# Altium footprint library SamacSys.PcbLib: 15 footprints
Each footprint in its own frame and in the unit in brackets; x right, y up, seen from the top. Pads: shape width x height; smd on the part's side, far side on the other; paste and mask are expansions set on the pad; w line width, h text height; cw(c..) or ccw(c..) is an arc to the next point about the centre after c.
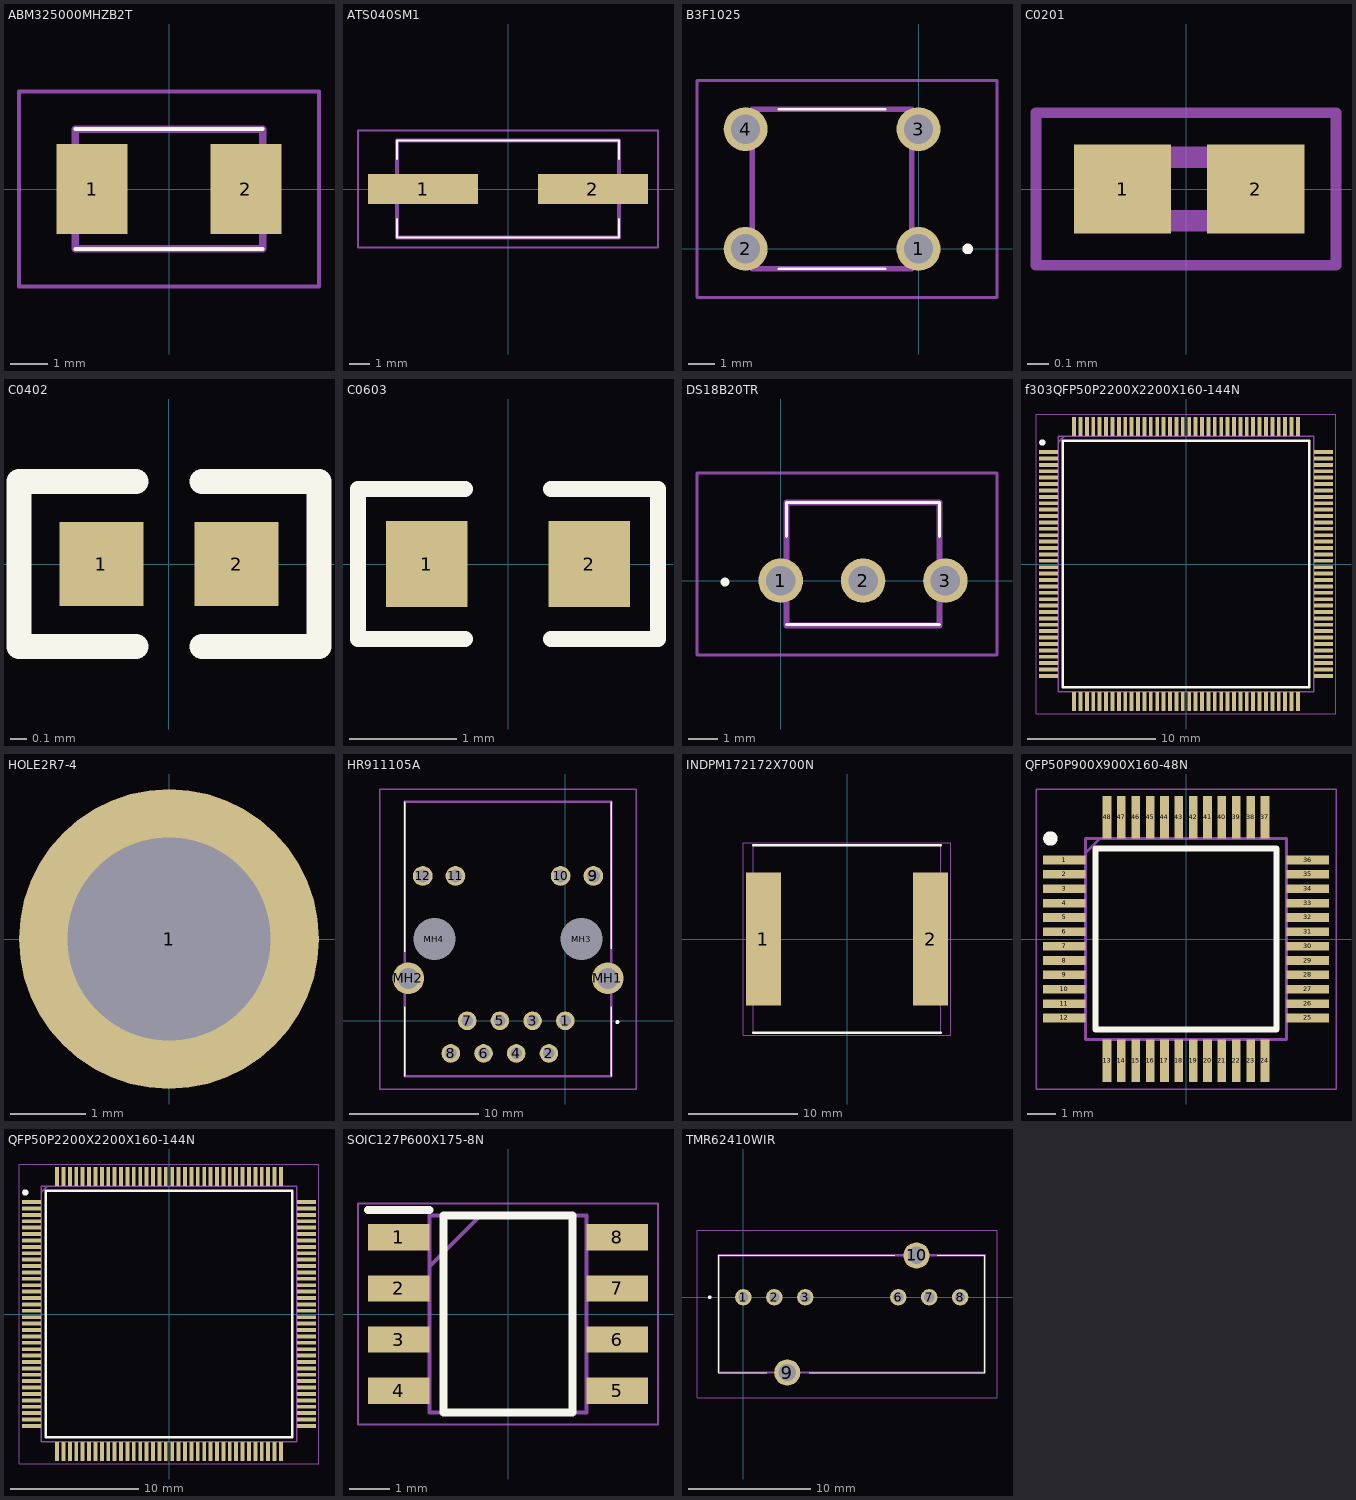
[diagram p0: the footprints below, top view; thin cyan lines are the x and y axes]

## ABM325000MHZB2T [mm]
pads (2):
  rect 1.9x2.4 smd: 1(-2.05,0) 2(2.05,0)
Top Overlay:
  lines w0.1: -2.5,-1.6 2.5,-1.6 ; -2.5,1.6 2.5,1.6
Mechanical 13:
  lines w0.2: -2.5,-1.6 -2.5,1.6 2.5,1.6 2.5,-1.6 -2.5,-1.6
Mechanical 15:
  lines w0.1: -4,-2.6 -4,2.6 4,2.6 4,-2.6 -4,-2.6
3D body "ABM3-25.000MHZ-B2-T.stp": height 1.4, standoff 0, extent -2.81,-1.6 2.81,1.6

## ATS040SM1 [mm]
pads (2):
  rect 5.5x1.5 smd: 1(-4.25,0) 2(4.25,0)
Top Overlay:
  lines w0.1: -5.55,-1.5 -5.55,-2.415 5.5,-2.415 5.55,-2.415 5.55,-1.5 ; -5.55,1.5 -5.55,2.415 5.55,2.415 5.55,1.5
Mechanical 13:
  lines w0.2: -5.55,-2.415 -5.55,2.415 5.55,2.415 5.55,-2.415 -5.55,-2.415
Mechanical 15:
  lines w0.1: -7.5,-2.915 -7.5,2.915 7.5,2.915 7.5,-2.915 -7.5,-2.915
3D body "ATS08ASM-1E.stp": height 4.4, standoff 0, extent -6.85,-2.415 6.85,2.415

## B3F1025 [mm]
pads (4):
  round 1.65 hole 1.1: 1(0,0) 2(-6.5,0) 3(0,4.5) 4(-6.5,4.5)
Top Overlay:
  lines w0.1: -5.25,-0.75 -1.25,-0.75 ; -5.25,5.25 -1.25,5.25
  lines w0.2: 1.75,0 cw(c1.85,0) 1.95,0 cw(c1.85,0) 1.75,0
Mechanical 13:
  lines w0.2: -6.25,-0.75 -6.25,5.25 -0.25,5.25 -0.25,-0.75 -6.25,-0.75
Mechanical 15:
  lines w0.1: -8.325,-1.825 -8.325,6.325 2.95,6.325 2.95,-1.825 -8.325,-1.825
3D body "B3F-1025.stp": height 5.3, standoff -5, extent -6.946,-0.75 0.45,5.25

## C0201 [mm]
pads (2):
  rect 0.46x0.42 smd: 1(-0.3,0) 2(0.33,0)
Mechanical 13:
  lines w0.1: -0.3,-0.15 0.3,-0.15 0.3,0.15 -0.3,0.15 -0.3,-0.15
Mechanical 15:
  lines w0.05: -0.71,-0.36 0.71,-0.36 0.71,0.36 -0.71,0.36 -0.71,-0.36
3D body "C0201C101K3GACTU.stp": height 0.33, standoff 0, extent -0.3,-0.15 0.3,0.15

## C0402 [mm] "C0402"
pads (2):
  rect 0.51x0.51 smd: 1(-0.41,0) 2(0.41,0)
Top Overlay:
  lines w0.15: -0.2,-0.5 -0.91,-0.5 -0.91,0.5 -0.2,0.5 ; 0.2,-0.5 0.91,-0.5 0.91,0.5 0.2,0.5

## C0603 [mil] "C0603"
pads (2):
  rect 29.92x31.5 smd: 1(-29.92,0) 2(29.92,0)
Top Overlay:
  lines w5.91: -15.75,-27.56 -55.12,-27.56 -55.12,27.56 -15.75,27.56 ; 15.75,-27.56 55.12,-27.56 55.12,27.56 15.75,27.56

## DS18B20TR [mm]
pads (3):
  round 1.512 hole 1.008: 1(0,0) 2(2.8,0) 3(5.6,0)
Top Overlay:
  lines w0.1: 0.195,2.66 0.195,1.5 0.195,2.66 ; 0.195,2.66 5.405,2.66 ; 0.195,2.66 5.405,2.66 ; 5.405,2.66 5.405,1.5 5.405,2.66 ; 0.195,-1.5 5.405,-1.5 0.195,-1.5
  lines w0.2: -1.9,-0.1 ccw(c-1.9,-0.05) -1.9,0 ; -1.9,-0.1 cw(c-1.9,-0.05) -1.9,0 ; -1.9,-0.1 ccw(c-1.9,-0.05) -1.9,0
Mechanical 13:
  lines w0.2: 0.195,-1.53 5.405,-1.53 5.405,2.66 0.195,2.66 0.195,-1.53
Mechanical 15:
  lines w0.1: -2.85,-2.53 7.356,-2.53 7.356,3.66 -2.85,3.66 -2.85,-2.53
3D body "DS18B20+T&R.stp": height 10.51, standoff -5, extent -0.401,-1.53 6.004,2.66

## f303QFP50P2200X2200X160-144N [mm]
pads (144):
  rect 1.475x0.3 smd: 1(-10.738,8.75) 2(-10.738,8.25) 3(-10.738,7.75) 4(-10.738,7.25) 5(-10.738,6.75) 6(-10.738,6.25) 7(-10.738,5.75) 8(-10.738,5.25) 9(-10.738,4.75) 10(-10.738,4.25) 11(-10.738,3.75) 12(-10.738,3.25) 13(-10.738,2.75) 14(-10.738,2.25) 15(-10.738,1.75) 16(-10.738,1.25) 17(-10.738,0.75) 18(-10.738,0.25) 19(-10.738,-0.25) 20(-10.738,-0.75) 21(-10.738,-1.25) 22(-10.738,-1.75) 23(-10.738,-2.25) 24(-10.738,-2.75) 25(-10.738,-3.25) 26(-10.738,-3.75) 27(-10.738,-4.25) 28(-10.738,-4.75) 29(-10.738,-5.25) 30(-10.738,-5.75) 31(-10.738,-6.25) 32(-10.738,-6.75) 33(-10.738,-7.25) 34(-10.738,-7.75) 35(-10.738,-8.25) 36(-10.738,-8.75) 73(10.738,-8.75) 74(10.738,-8.25) 75(10.738,-7.75) 76(10.738,-7.25) 77(10.738,-6.75) 78(10.738,-6.25) 79(10.738,-5.75) 80(10.738,-5.25) 81(10.738,-4.75) 82(10.738,-4.25) 83(10.738,-3.75) 84(10.738,-3.25) 85(10.738,-2.75) 86(10.738,-2.25) 87(10.738,-1.75) 88(10.738,-1.25) 89(10.738,-0.75) 90(10.738,-0.25) 91(10.738,0.25) 92(10.738,0.75) 93(10.738,1.25) 94(10.738,1.75) 95(10.738,2.25) 96(10.738,2.75) 97(10.738,3.25) 98(10.738,3.75) 99(10.738,4.25) 100(10.738,4.75) 101(10.738,5.25) 102(10.738,5.75) 103(10.738,6.25) 104(10.738,6.75) 105(10.738,7.25) 106(10.738,7.75) 107(10.738,8.25) 108(10.738,8.75)
  rect 0.3x1.475 smd: 37(-8.75,-10.738) 38(-8.25,-10.738) 39(-7.75,-10.738) 40(-7.25,-10.738) 41(-6.75,-10.738) 42(-6.25,-10.738) 43(-5.75,-10.738) 44(-5.25,-10.738) 45(-4.75,-10.738) 46(-4.25,-10.738) 47(-3.75,-10.738) 48(-3.25,-10.738) 49(-2.75,-10.738) 50(-2.25,-10.738) 51(-1.75,-10.738) 52(-1.25,-10.738) 53(-0.75,-10.738) 54(-0.25,-10.738) 55(0.25,-10.738) 56(0.75,-10.738) 57(1.25,-10.738) 58(1.75,-10.738) 59(2.25,-10.738) 60(2.75,-10.738) 61(3.25,-10.738) 62(3.75,-10.738) 63(4.25,-10.738) 64(4.75,-10.738) 65(5.25,-10.738) 66(5.75,-10.738) 67(6.25,-10.738) 68(6.75,-10.738) 69(7.25,-10.738) 70(7.75,-10.738) 71(8.25,-10.738) 72(8.75,-10.738) 109(8.75,10.738) 110(8.25,10.738) 111(7.75,10.738) 112(7.25,10.738) 113(6.75,10.738) 114(6.25,10.738) 115(5.75,10.738) 116(5.25,10.738) 117(4.75,10.738) 118(4.25,10.738) 119(3.75,10.738) 120(3.25,10.738) 121(2.75,10.738) 122(2.25,10.738) 123(1.75,10.738) 124(1.25,10.738) 125(0.75,10.738) 126(0.25,10.738) 127(-0.25,10.738) 128(-0.75,10.738) 129(-1.25,10.738) 130(-1.75,10.738) 131(-2.25,10.738) 132(-2.75,10.738) 133(-3.25,10.738) 134(-3.75,10.738) 135(-4.25,10.738) 136(-4.75,10.738) 137(-5.25,10.738) 138(-5.75,10.738) 139(-6.25,10.738) 140(-6.75,10.738) 141(-7.25,10.738) 142(-7.75,10.738) 143(-8.25,10.738) 144(-8.75,10.738)
Top Overlay:
  circle w0.25: c-11.225,9.5 r0.125
  lines w0.2: -9.65,-9.65 9.65,-9.65 9.65,9.65 -9.65,9.65 -9.65,-9.65
Mechanical 13:
  lines w0.1: -10,9.5 -9.5,10 ; -10,-10 10,-10 10,10 -10,10 -10,-10
Mechanical 15:
  lines w0.05: -11.725,-11.725 11.725,-11.725 11.725,11.725 -11.725,11.725 -11.725,-11.725
3D body "STM32F429ZGT6.stp": height 1.6, standoff 0, extent -11,-11 11,11

## HOLE2R7-4 [mm] "HOLE2R7-4"
pads (1):
  round 4 / inner round 1.524 / far side round 1.524 hole 2.7: 1(0,0)
Mechanical 12:
  text "1" at -0.254,0 h0.64

## HR911105A [mm]
pads (16):
  round 1.446 hole 0.89: 1(0,0) 2(-1.27,-2.54) 3(-2.54,0) 4(-3.81,-2.54) 5(-5.08,0) 6(-6.35,-2.54) 7(-7.62,0) 8(-8.89,-2.54)
  round 1.53 hole 1.02: 9(2.18,11.25) 10(-0.36,11.25) 11(-8.53,11.25) 12(-11.07,11.25)
  round 2.445 hole 1.63: MH1(3.3,3.3) MH2(-12.19,3.3)
  round 1.625 hole 3.25 unplated: MH3(1.27,6.35) MH4(-10.16,6.35)
Top Overlay:
  lines w0.1: -12.465,-4.3 -12.465,1.1 -12.465,-4.3 ; -12.465,5.35 -12.465,17 -12.465,5.35 ; 3.575,-4.3 3.575,1.1 3.575,-4.3 ; 3.575,5.6 3.575,17 3.575,5.6
  lines w0.2: 4.05,-0.15 ccw(c4.05,-0.1) 4.05,-0.05 ; 4.05,-0.15 cw(c4.05,-0.1) 4.05,-0.05 ; 4.05,-0.15 ccw(c4.05,-0.1) 4.05,-0.05
Mechanical 13:
  lines w0.2: -12.465,-4.3 3.575,-4.3 3.575,17 -12.465,17 -12.465,-4.3
Mechanical 15:
  lines w0.1: -14.417,-5.3 5.518,-5.3 5.518,18 -14.417,18 -14.417,-5.3
3D body "HR911105A.stp": height 13.85, standoff -5, extent -12.899,-4.3 4.015,17

## INDPM172172X700N [mm]
pads (2):
  rect 3.2x12.15 smd: 1(-7.65,0) 2(7.65,0)
Top Overlay:
  lines w0.2: -8.575,-8.575 8.575,-8.575 ; -8.575,8.575 8.575,8.575
Mechanical 13:
  lines w0.1: -8.575,-8.575 -8.575,8.575 8.575,8.575 8.575,-8.575 -8.575,-8.575
Mechanical 15:
  lines w0.05: -9.5,-8.825 -9.5,8.825 9.5,8.825 9.5,-8.825 -9.5,-8.825
3D body "IHLP6767GZER220M01.stp": height 6.89, standoff 0, extent -8.584,-8.592 8.591,8.584

## QFP50P900X900X160-48N [mm]
pads (48):
  rect 1.475x0.3 smd: 1(-4.238,2.75) 2(-4.238,2.25) 3(-4.238,1.75) 4(-4.238,1.25) 5(-4.238,0.75) 6(-4.238,0.25) 7(-4.238,-0.25) 8(-4.238,-0.75) 9(-4.238,-1.25) 10(-4.238,-1.75) 11(-4.238,-2.25) 12(-4.238,-2.75) 25(4.238,-2.75) 26(4.238,-2.25) 27(4.238,-1.75) 28(4.238,-1.25) 29(4.238,-0.75) 30(4.238,-0.25) 31(4.238,0.25) 32(4.238,0.75) 33(4.238,1.25) 34(4.238,1.75) 35(4.238,2.25) 36(4.238,2.75)
  rect 0.3x1.475 smd: 13(-2.75,-4.238) 14(-2.25,-4.238) 15(-1.75,-4.238) 16(-1.25,-4.238) 17(-0.75,-4.238) 18(-0.25,-4.238) 19(0.25,-4.238) 20(0.75,-4.238) 21(1.25,-4.238) 22(1.75,-4.238) 23(2.25,-4.238) 24(2.75,-4.238) 37(2.75,4.238) 38(2.25,4.238) 39(1.75,4.238) 40(1.25,4.238) 41(0.75,4.238) 42(0.25,4.238) 43(-0.25,4.238) 44(-0.75,4.238) 45(-1.25,4.238) 46(-1.75,4.238) 47(-2.25,4.238) 48(-2.75,4.238)
Top Overlay:
  circle w0.25: c-4.725,3.5 r0.125
  lines w0.2: -3.15,-3.15 -3.15,3.15 3.15,3.15 3.15,-3.15 -3.15,-3.15
Mechanical 13:
  lines w0.1: -3.5,3 -3,3.5 ; -3.5,-3.5 -3.5,3.5 3.5,3.5 3.5,-3.5 -3.5,-3.5
Mechanical 15:
  lines w0.05: -5.225,-5.225 -5.225,5.225 5.225,5.225 5.225,-5.225 -5.225,-5.225
3D body "W5500.stp": height 1.6, standoff 0, extent -4.5,-4.5 4.5,4.5

## QFP50P2200X2200X160-144N [mm]
pads (144):
  rect 1.475x0.3 smd: 1(-10.738,8.75) 2(-10.738,8.25) 3(-10.738,7.75) 4(-10.738,7.25) 5(-10.738,6.75) 6(-10.738,6.25) 7(-10.738,5.75) 8(-10.738,5.25) 9(-10.738,4.75) 10(-10.738,4.25) 11(-10.738,3.75) 12(-10.738,3.25) 13(-10.738,2.75) 14(-10.738,2.25) 15(-10.738,1.75) 16(-10.738,1.25) 17(-10.738,0.75) 18(-10.738,0.25) 19(-10.738,-0.25) 20(-10.738,-0.75) 21(-10.738,-1.25) 22(-10.738,-1.75) 23(-10.738,-2.25) 24(-10.738,-2.75) 25(-10.738,-3.25) 26(-10.738,-3.75) 27(-10.738,-4.25) 28(-10.738,-4.75) 29(-10.738,-5.25) 30(-10.738,-5.75) 31(-10.738,-6.25) 32(-10.738,-6.75) 33(-10.738,-7.25) 34(-10.738,-7.75) 35(-10.738,-8.25) 36(-10.738,-8.75) 73(10.738,-8.75) 74(10.738,-8.25) 75(10.738,-7.75) 76(10.738,-7.25) 77(10.738,-6.75) 78(10.738,-6.25) 79(10.738,-5.75) 80(10.738,-5.25) 81(10.738,-4.75) 82(10.738,-4.25) 83(10.738,-3.75) 84(10.738,-3.25) 85(10.738,-2.75) 86(10.738,-2.25) 87(10.738,-1.75) 88(10.738,-1.25) 89(10.738,-0.75) 90(10.738,-0.25) 91(10.738,0.25) 92(10.738,0.75) 93(10.738,1.25) 94(10.738,1.75) 95(10.738,2.25) 96(10.738,2.75) 97(10.738,3.25) 98(10.738,3.75) 99(10.738,4.25) 100(10.738,4.75) 101(10.738,5.25) 102(10.738,5.75) 103(10.738,6.25) 104(10.738,6.75) 105(10.738,7.25) 106(10.738,7.75) 107(10.738,8.25) 108(10.738,8.75)
  rect 0.3x1.475 smd: 37(-8.75,-10.738) 38(-8.25,-10.738) 39(-7.75,-10.738) 40(-7.25,-10.738) 41(-6.75,-10.738) 42(-6.25,-10.738) 43(-5.75,-10.738) 44(-5.25,-10.738) 45(-4.75,-10.738) 46(-4.25,-10.738) 47(-3.75,-10.738) 48(-3.25,-10.738) 49(-2.75,-10.738) 50(-2.25,-10.738) 51(-1.75,-10.738) 52(-1.25,-10.738) 53(-0.75,-10.738) 54(-0.25,-10.738) 55(0.25,-10.738) 56(0.75,-10.738) 57(1.25,-10.738) 58(1.75,-10.738) 59(2.25,-10.738) 60(2.75,-10.738) 61(3.25,-10.738) 62(3.75,-10.738) 63(4.25,-10.738) 64(4.75,-10.738) 65(5.25,-10.738) 66(5.75,-10.738) 67(6.25,-10.738) 68(6.75,-10.738) 69(7.25,-10.738) 70(7.75,-10.738) 71(8.25,-10.738) 72(8.75,-10.738) 109(8.75,10.738) 110(8.25,10.738) 111(7.75,10.738) 112(7.25,10.738) 113(6.75,10.738) 114(6.25,10.738) 115(5.75,10.738) 116(5.25,10.738) 117(4.75,10.738) 118(4.25,10.738) 119(3.75,10.738) 120(3.25,10.738) 121(2.75,10.738) 122(2.25,10.738) 123(1.75,10.738) 124(1.25,10.738) 125(0.75,10.738) 126(0.25,10.738) 127(-0.25,10.738) 128(-0.75,10.738) 129(-1.25,10.738) 130(-1.75,10.738) 131(-2.25,10.738) 132(-2.75,10.738) 133(-3.25,10.738) 134(-3.75,10.738) 135(-4.25,10.738) 136(-4.75,10.738) 137(-5.25,10.738) 138(-5.75,10.738) 139(-6.25,10.738) 140(-6.75,10.738) 141(-7.25,10.738) 142(-7.75,10.738) 143(-8.25,10.738) 144(-8.75,10.738)
Top Overlay:
  circle w0.25: c-11.225,9.5 r0.125
  lines w0.2: -9.65,-9.65 -9.65,9.65 9.65,9.65 9.65,-9.65 -9.65,-9.65
Mechanical 13:
  lines w0.1: -10,9.5 -9.5,10 ; -10,-10 -10,10 10,10 10,-10 -10,-10
Mechanical 15:
  lines w0.05: -11.725,-11.725 -11.725,11.725 11.725,11.725 11.725,-11.725 -11.725,-11.725
3D body "STM32F429ZGT6.stp": height 1.6, standoff 0, extent -11,-11 11,11

## SOIC127P600X175-8N [mm]
pads (8):
  rect 1.525x0.65 smd: 1(-2.712,1.905) 2(-2.712,0.635) 3(-2.712,-0.635) 4(-2.712,-1.905) 5(2.712,-1.905) 6(2.712,-0.635) 7(2.712,0.635) 8(2.712,1.905)
Top Overlay:
  lines w0.2: -3.475,2.58 -1.95,2.58 ; -1.6,-2.45 1.6,-2.45 1.6,2.45 -1.6,2.45 -1.6,-2.45
Mechanical 13:
  lines w0.1: -1.95,1.18 -0.68,2.45 ; -1.95,-2.45 1.95,-2.45 1.95,2.45 -1.95,2.45 -1.95,-2.45
Mechanical 15:
  lines w0.05: -3.725,-2.75 3.725,-2.75 3.725,2.75 -3.725,2.75 -3.725,-2.75
3D body "NE555DR.stp": height 1.75, standoff 0, extent -3,-2.45 3,2.45

## TMR62410WIR [mm]
pads (8):
  round 1.349 hole 0.83: 1(0,0) 2(2.54,0) 3(5.08,0) 6(12.7,0) 7(15.24,0) 8(17.78,0)
  round 2.145 hole 1.43: 9(3.6,-6.175) 10(14.2,3.425)
Top Overlay:
  lines w0.1: -2,-6.175 1.9,-6.175 -2,-6.175 ; -2,-6.175 -2,3.425 ; -2,-6.175 -2,3.425 ; -2,3.425 12.4,3.425 -2,3.425 ; 19.8,-6.175 5.4,-6.175 19.8,-6.175 ; 19.8,-6.175 19.8,3.425 ; 19.8,-6.175 19.8,3.425 ; 19.8,3.425 15.9,3.425 19.8,3.425
  lines w0.2: -2.8,0 ccw(c-2.75,0) -2.7,0 ; -2.8,0 cw(c-2.75,0) -2.7,0 ; -2.8,0 ccw(c-2.75,0) -2.7,0
Mechanical 13:
  lines w0.2: -2,-6.175 19.8,-6.175 19.8,3.425 -2,3.425 -2,-6.175
Mechanical 15:
  lines w0.1: -3.8,-8.248 20.8,-8.248 20.8,5.497 -3.8,5.497 -3.8,-8.248
3D body "TMR_6-2415WIR.stp": height 14.7, standoff -0.6, extent -2.122,-5.951 19.722,3.751